# Altium footprint library CL31B475KOHNNNE.PcbLib: 3 footprints
Each footprint in its own frame and in the unit in brackets; x right, y up, seen from the top. Pads: shape width x height; smd on the part's side, far side on the other; paste and mask are expansions set on the pad; w line width, h text height; cw(c..) or ccw(c..) is an arc to the next point about the centre after c.
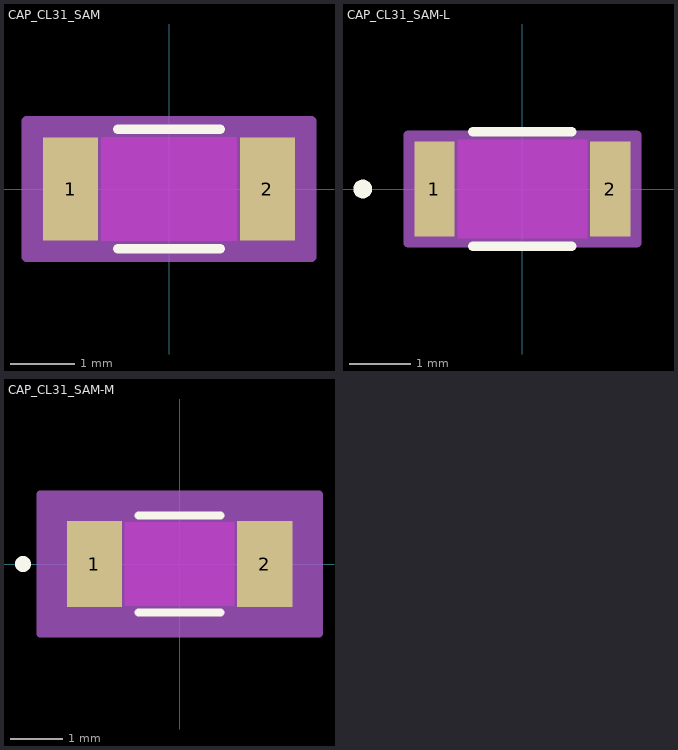
[diagram p0: the footprints below, top view; thin cyan lines are the x and y axes]

## CAP_CL31_SAM [mm]
pads (2):
  rect 0.856x1.6 smd paste+0 mask+0: 1(-1.528,0) 2(1.528,0)
Top Layer keep-out:
  region: -1.049,-0.749 -1.049,0.749 1.049,0.749 1.049,-0.749
Top Overlay:
  lines w0.152: -0.792,-0.927 0.792,-0.927 ; -0.792,0.927 0.792,0.927
Keep-Out Layer:
  region: -1.049,-0.8 -1.049,0.8 1.049,0.8 1.049,-0.8
Mechanical 13:
  lines w0.025: -1.6,-0.8 -1.6,0.8 ; -1.6,-0.8 1.6,-0.8 ; -1.6,-0.8 -1.1,-0.8 -1.1,0.8 -1.6,0.8 ; -1.6,-0.8 -1.6,0.8 ; -1.6,0.8 1.6,0.8 ; 1.6,-0.8 1.6,0.8 ; 1.6,-0.8 1.6,0.8 ; 1.6,-0.8 1.1,-0.8 1.1,0.8 1.6,0.8
Mechanical 15:
  region: 2.21,-1.054 -2.21,-1.054 -2.21,1.054 2.21,1.054
  lines w0.152: -2.21,-1.054 2.21,-1.054 2.21,1.054 -2.21,1.054 -2.21,-1.054
3D body "CAP_CL31_SAM.step": height 1, standoff 0, extent -1.6,-0.8 1.6,0.8

## CAP_CL31_SAM-L [mm]
pads (2):
  rect 0.652x1.549 smd paste+0 mask+0: 1(-1.426,0) 2(1.426,0)
Top Layer keep-out:
  region: -1.049,-0.749 -1.049,0.749 1.049,0.749 1.049,-0.749
Top Overlay:
  circle w0.152: c-2.591,0 r0.076
  lines w0.152: -0.804,-0.927 0.804,-0.927 ; -0.804,0.927 0.804,0.927
Keep-Out Layer:
  region: -1.049,-0.8 -1.049,0.8 1.049,0.8 1.049,-0.8
Mechanical 13:
  circle w0: c-1.299,0 r0.076
  lines w0.025: -1.6,-0.8 -1.6,0.8 ; -1.6,-0.8 -1.1,-0.8 -1.1,0.8 -1.6,0.8 ; -1.6,-0.8 1.6,-0.8 ; -1.6,-0.8 -1.6,0.8 ; -1.6,0.8 1.6,0.8 ; 1.6,-0.8 1.1,-0.8 1.1,0.8 1.6,0.8 ; 1.6,-0.8 1.6,0.8 ; 1.6,-0.8 1.6,0.8
Mechanical 15:
  region: 1.854,-0.876 -1.854,-0.876 -1.854,0.876 1.854,0.876
  lines w0.152: -1.854,-0.876 -1.854,0.876 1.854,0.876 1.854,-0.876 -1.854,-0.876
3D body "CAP_CL31_SAM.step": height 1, standoff 0, extent -1.6,-0.8 1.6,0.8

## CAP_CL31_SAM-M [mm]
pads (2):
  rect 1.059x1.651 smd paste+0 mask+0: 1(-1.629,0) 2(1.629,0)
Top Layer keep-out:
  region: -1.049,-0.749 -1.049,0.749 1.049,0.749 1.049,-0.749
Top Overlay:
  circle w0.152: c-2.997,0 r0.076
  lines w0.152: -0.783,-0.927 0.783,-0.927 ; -0.783,0.927 0.783,0.927
Keep-Out Layer:
  region: -1.049,-0.8 -1.049,0.8 1.049,0.8 1.049,-0.8
Mechanical 13:
  circle w0: c-1.502,0 r0.076
  lines w0.025: -1.6,-0.8 -1.6,0.8 ; -1.6,-0.8 -1.1,-0.8 -1.1,0.8 -1.6,0.8 ; -1.6,-0.8 1.6,-0.8 ; -1.6,-0.8 -1.6,0.8 ; -1.6,0.8 1.6,0.8 ; 1.6,-0.8 1.1,-0.8 1.1,0.8 1.6,0.8 ; 1.6,-0.8 1.6,0.8 ; 1.6,-0.8 1.6,0.8
Mechanical 15:
  region: 2.667,-1.333 -2.667,-1.333 -2.667,1.333 2.667,1.333
  lines w0.152: -2.667,-1.333 -2.667,1.333 2.667,1.333 2.667,-1.333 -2.667,-1.333
3D body "CAP_CL31_SAM.step": height 1, standoff 0, extent -1.6,-0.8 1.6,0.8